# Altium schematic symbol library RC0603FR-07220KL.SchLib: 1 symbol
Pins are listed as number, name and electrical type; pins without a type are passive.

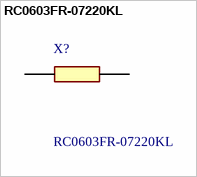
[diagram p0: symbol RC0603FR-07220KL]

## RC0603FR-07220KL
designator X?
Thick Film Resistors - SMD 220 kOhms 100mW 0603 1%; Manufacturer_Name: YAGEO; Geometry.Height: 0.55mm; Manufacturer_Part_Number: RC0603FR-07220KL; Mouser Part Number: 603-RC0603FR-07220KL; Mouser Price/Stock: https://www.mouser.co.uk/ProductDetail/YAGEO/RC0603FR-07220KL?qs=nHyvTUT5UJ87BOKAmWeB9w%3D%3D; Arrow Part Number: *; Arrow Price/Stock: *; Datasheet Link: https://componentsearchengine.com/Datasheets/2/RC0603FR-07220KL.pdf
footprint RESC1608X55N
pins: 1, 2